# EAGLE library part 62102421921 (library Headers)
2.00mm SMT Straight Dual Pin Header WR-PHD Manufacturer's datasheet <https://katalog.we-online.com/em/datasheet/62102421921.pdf>
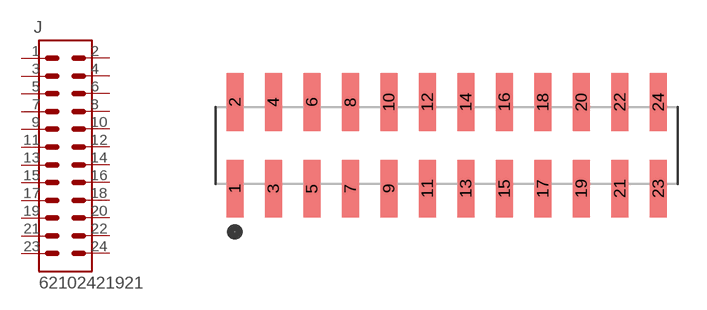
[diagram p9: symbol with the pads of 62102421921; footprint 62102421921]

Designator prefix J

## 62102421921 (CREATED_BY: PCBLayout.com; MANUFACTURER: Wurth Elektronik; MPN: 62102421921)  [62102421921]
1  1  pas
2  2  pas
3  3  pas
4  4  pas
5  5  pas
6  6  pas
7  7  pas
8  8  pas
9  9  pas
10  10  pas
11  11  pas
12  12  pas
13  13  pas
14  14  pas
15  15  pas
16  16  pas
17  17  pas
18  18  pas
19  19  pas
20  20  pas
21  21  pas
22  22  pas
23  23  pas
24  24  pas

## Footprint 62102421921 (pad centres in mm)
smd 0.89 x 3: 1 -11,-2.25; 2 -11,2.25; 3 -9,-2.25; 4 -9,2.25; 5 -7,-2.25; 6 -7,2.25; 7 -5,-2.25; 8 -5,2.25; 9 -3,-2.25; 10 -3,2.25; 11 -1,-2.25; 12 -1,2.25; 13 1,-2.25; 14 1,2.25; 15 3,-2.25; 16 3,2.25; 17 5,-2.25; 18 5,2.25; 19 7,-2.25; 20 7,2.25; 21 9,-2.25; 22 9,2.25; 23 11,-2.25; 24 11,2.25